# EAGLE library part AP2112M-3.3TRG1 (library Inventory)
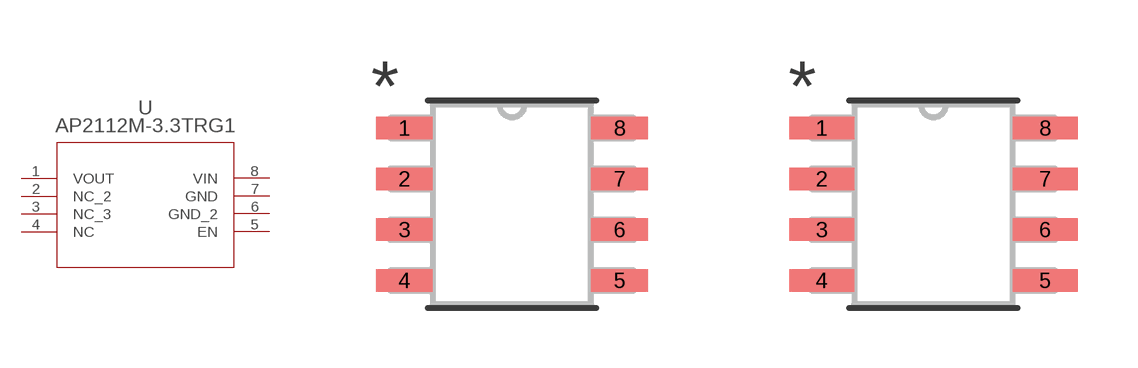
[diagram p7: symbol with the pads of AP2112M-3.3TRG1_DIO; footprints AP2112M-3.3TRG1_DIO, AP2112M-3.3TRG1_DIO-M]

Designator prefix U

## AP2112M-3.3TRG1 (COPYRIGHT: Copyright (C) 2022 Ultra Librarian. All rights reserved.; DIGI-KEY_PART_NUMBER_1: AP2112M-3.3TRG1DITR-ND; DIGI-KEY_PART_NUMBER_2: AP2112M-3.3TRG1DICT-ND; DIGI-KEY_PART_NUMBER_3: AP2112M-3.3TRG1DIDKR-ND; MANUFACTURER_PART_NUMBER: AP2112M-3.3TRG1; MFR_NAME: Diodes Inc)  [AP2112M-3.3TRG1_DIO]
1  VOUT  out
2  NC_2  nc
3  NC_3  nc
4  NC  nc
5  EN  pas
6  GND_2  pas
7  GND  pas
8  VIN  pwr

## AP2112M-3.3TRG1AP2112M-3.3TRG1_DIO-M (COPYRIGHT: Copyright (C) 2022 Ultra Librarian. All rights reserved.; DIGI-KEY_PART_NUMBER_1: AP2112M-3.3TRG1DITR-ND; DIGI-KEY_PART_NUMBER_2: AP2112M-3.3TRG1DICT-ND; DIGI-KEY_PART_NUMBER_3: AP2112M-3.3TRG1DIDKR-ND; MANUFACTURER_PART_NUMBER: AP2112M-3.3TRG1; MFR_NAME: Diodes Inc)  [AP2112M-3.3TRG1_DIO-M]
Pads as for AP2112M-3.3TRG1_DIO

## AP2112M-3.3TRG1AP2112M-3.3TRG1_DIO-L (COPYRIGHT: Copyright (C) 2022 Ultra Librarian. All rights reserved.; DIGI-KEY_PART_NUMBER_1: AP2112M-3.3TRG1DITR-ND; DIGI-KEY_PART_NUMBER_2: AP2112M-3.3TRG1DICT-ND; DIGI-KEY_PART_NUMBER_3: AP2112M-3.3TRG1DIDKR-ND; MANUFACTURER_PART_NUMBER: AP2112M-3.3TRG1; MFR_NAME: Diodes Inc)  [AP2112M-3.3TRG1_DIO-L]
Pads as for AP2112M-3.3TRG1_DIO

## Footprint AP2112M-3.3TRG1_DIO (pad centres in mm)
smd 1.422 x 0.559: 1 -2.692,1.905; 2 -2.692,0.635; 3 -2.692,-0.635; 4 -2.692,-1.905; 5 2.692,-1.905; 6 2.692,-0.635; 7 2.692,0.635; 8 2.692,1.905

## Footprint AP2112M-3.3TRG1_DIO-M (pad centres in mm)
smd 1.626 x 0.559: 1 -2.794,1.905; 2 -2.794,0.635; 3 -2.794,-0.635; 4 -2.794,-1.905; 5 2.794,-1.905; 6 2.794,-0.635; 7 2.794,0.635; 8 2.794,1.905

## Footprint AP2112M-3.3TRG1_DIO-L (pad centres in mm)
smd 1.219 x 0.508: 1 -2.591,1.905; 2 -2.591,0.635; 3 -2.591,-0.635; 4 -2.591,-1.905; 5 2.591,-1.905; 6 2.591,-0.635; 7 2.591,0.635; 8 2.591,1.905